# EAGLE library part MCP6L02 (library Eagle_Lib_IUT)
1 MHz, 85 µA Dual Op Amps datasheet <http://ww1.microchip.com/downloads/en/DeviceDoc/22140b.pdf>
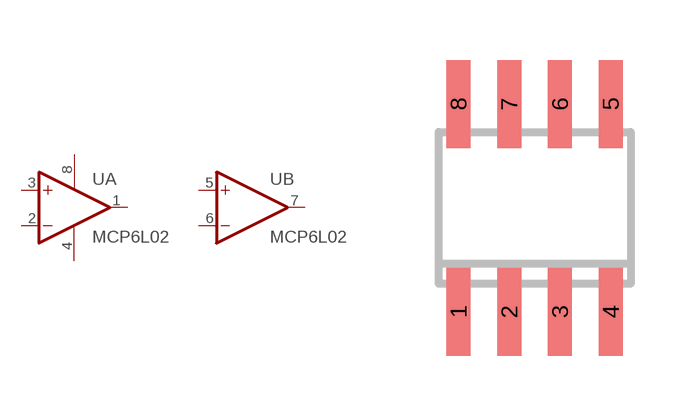
[diagram p0: symbol with the pads of SO-08; footprint SO-08]

Designator prefix U; gates A=OPAMP B=OPAMP P=PWR+-

## MCP6L02-E/SN  [SO-08]
1  A:OUT  out
2  A:-IN  in
3  A:+IN  in
4  P:V-  pwr
5  B:+IN  in
6  B:-IN  in
7  B:OUT  out
8  P:V+  pwr

## Footprint SO-08 (pad centres in mm)
Small Outline Narrow Plastic Gull Wing 150-mil body, package type SN
smd 0.6 x 2.2: 1 -1.905,-2.6; 2 -0.635,-2.6; 3 0.635,-2.6; 4 1.905,-2.6; 5 1.905,2.6; 6 0.635,2.6; 7 -0.635,2.6; 8 -1.905,2.6